# Altium schematic symbol library Switch.SchLib: 9 symbols
Pins are listed as number, name and electrical type; pins without a type are passive.

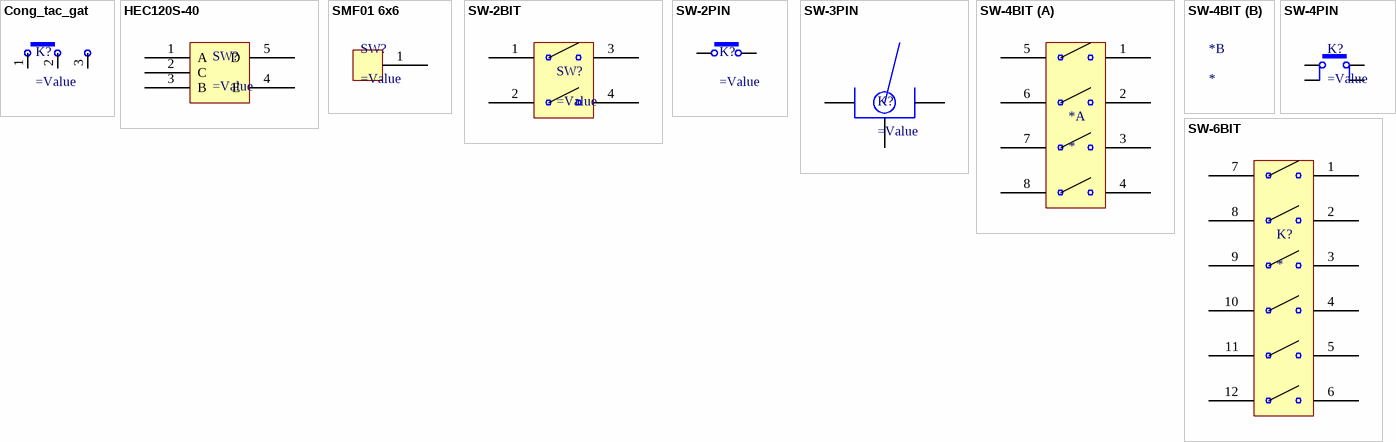
[diagram p0: symbols Cong_tac_gat to SW-6BIT]

## Cong_tac_gat
designator K?
=Description
pins: 1, 2, 3

## HEC120S-40
designator SW?
pins: 1 A, 2 C, 3 B, 4 E, 5 D

## SMF01 6x6
designator SW?
pins: 1

## SW-2BIT
designator SW?
=Description
pins: 1, 2, 3, 4

## SW-2PIN
designator K?
=Description
pins: 1, 2

## SW-3PIN
designator K?
=Description
pins: 1, 2, 3

## SW-4BIT
designator *
part A pins: 1, 2, 3, 4, 5, 6, 7, 8

## SW-4PIN
designator K?
=Description
pins: 1, 2, 3, 4

## SW-6BIT
designator K?
pins: 1, 2, 3, 4, 5, 6, 7, 8, 9, 10, 11 12, 12